# Altium schematic symbol library CC8531.SchLib: 1 symbol
Pins are listed as number, name and electrical type; pins without a type are passive.

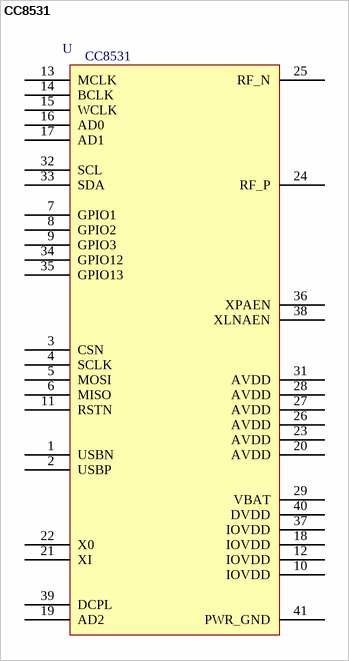
[diagram p0: symbol CC8531]

## CC8531
designator U  value CC8531  (hidden comment: *)
Manufacturer: Texas Instruments; Manufacturer Code: CC8530RHAT; Farnell Code: 1909480; Unit Price: 9,56 €
footprint QFN-40
pins: 1 USBN, 2 USBP, 3 CSN, 4 SCLK, 5 MOSI, 6 MISO, 7 GPIO1, 8 GPIO2, 9 GPIO3, 10 IOVDD, 11 RSTN, 12 IOVDD, 13 MCLK, 14 BCLK, 15 WCLK, 16 AD0, 17 AD1, 18 IOVDD, 19 AD2, 20 AVDD, 21 XI, 22 X0, 23 AVDD, 24 RF_P, 25 RF_N, 26 AVDD, 27 AVDD, 28 AVDD, 29 VBAT, 31 AVDD, 32 SCL, 33 SDA, 34 GPIO12, 35 GPIO13, 36 XPAEN, 37 IOVDD, 38 XLNAEN, 39 DCPL, 40 DVDD, 41 PWR_GND